# Altium schematic symbol library ProMicroSparkFun.SchLib: 1 symbol
Pins are listed as number, name and electrical type; pins without a type are passive.

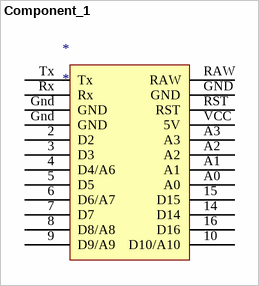
[diagram p0: symbol Component_1]

## Component_1
designator *
pins: 2 D2, 3 D3, 4 D4/A6, 5 D5, 6 D6/A7, 7 D7, 8 D8/A8, 9 D9/A9, 10 D10/A10, 14 D14, 15 D15, 16 D16, A0, A1, A2, A3, Gnd GND, GND, Gnd GND, RAW, RST, Rx, Tx, VCC 5V